# Altium integrated library LIB.IntLib: 8 symbols
Pins are listed as number, name and electrical type; pins without a type are passive.

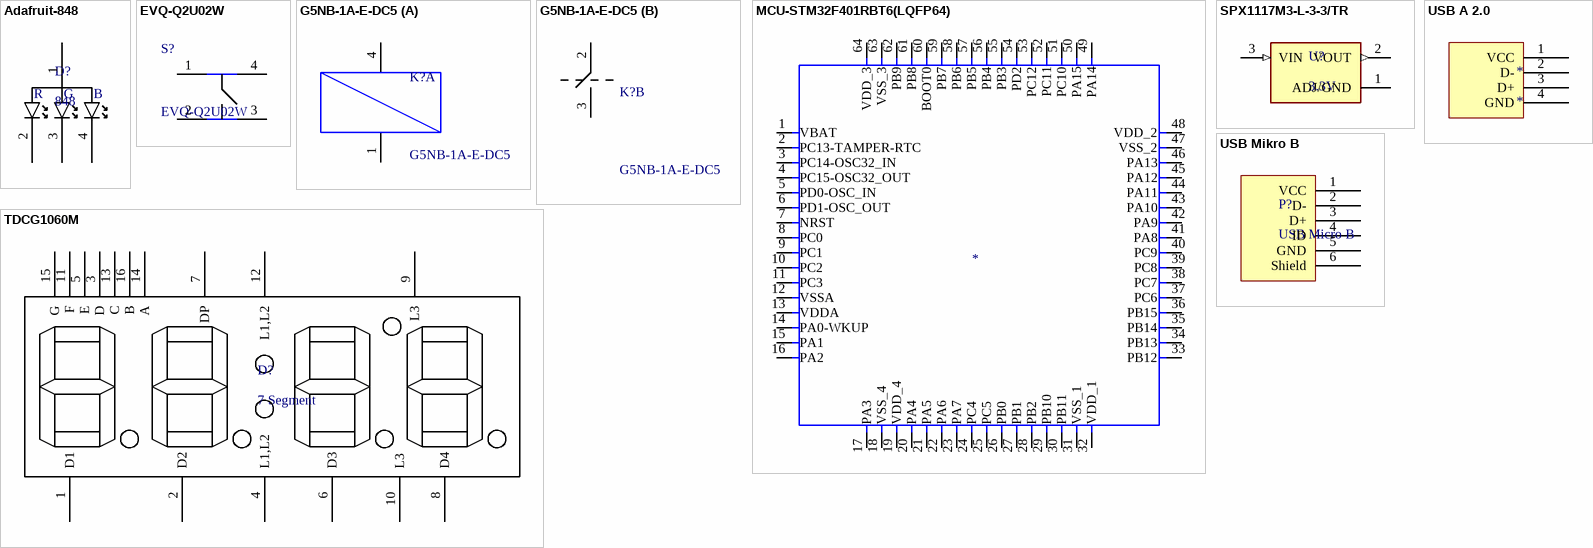
[diagram p0: symbols Adafruit-848 to USB Mikro B]

## Adafruit-848
designator D?, comment 848
footprint Adafruit-848
pins: 1 25, 2 26, 3 27, 4 28
text: R; G; B

## EVQ-Q2U02W
designator S?
White Button Tactile Switch, Single Pole Single Throw (SPST) 20 mA @ 15 V dc 0.7mm; Manufacturer_Name: Panasonic; Mouser Part Number: 667-EVQ-Q2U02W; Mouser Price/Stock: https://www.mouser.com/Search/Refine.aspx?Keyword=667-EVQ-Q2U02W; Manufacturer_Part_Number: EVQ-Q2U02W; Datasheet Link: https://componentsearchengine.com/Datasheets/1/EVQ-Q2U02W.pdf
footprint EVQQ2
pins: 1 NO_1, 2 COM_1, 3 COM_2, 4 NO_2

## G5NB-1A-E-DC5
designator K?
General Purpose Relays SPST-NO Flux-Tight 5VDC High-Capacity; Manufacturer_Name: Omron Electronics; Geometry.Height: 15mm; Manufacturer_Part_Number: G5NB-1A-E-DC5; Mouser Part Number: 653-G5NB-1A-E-DC5; Mouser Price/Stock: https://www.mouser.com/Search/Refine.aspx?Keyword=653-G5NB-1A-E-DC5; RS Part Number: *; RS Price/Stock: *; Datasheet Link: https://omronfs.omron.com/en_US/ecb/products/pdf/en-g5nb.pdf
footprint G5NB1A4DC5
part A pins: 1 COIL_1, 4 COIL_2
part B pins: 2 COM, 3 NO

## MCU-STM32F401RBT6(LQFP64)
designator ?
ARMÂ® CortexÂ®-M4 STM32F4 Microcontroller IC 32-Bit 84MHz 128KB _128K x 8_ FLASH 64-LQFP _10x10_; MF: STMicroelectronics; MP: STM32F401RBT6; Package: LQFP-64 STMicroelectronics; Price: None; Availability: Unavailable; SnapEDA_Link: https://www.snapeda.com/parts/STM32F401RBT6/STMicroelectronics/view-part/49021/?ref=snap; Value: *
footprint LQFP64-0.5-10X10MM
pins: 1 VBAT (io), 2 PC13-TAMPER-RTC (io), 3 PC14-OSC32_IN (io), 4 PC15-OSC32_OUT (io), 5 PD0-OSC_IN (io), 6 PD1-OSC_OUT (io), 7 NRST (io), 8 PC0 (io), 9 PC1 (io), 10 PC2 (io), 11 PC3 (io), 12 VSSA (io), 13 VDDA (io), 14 PA0-WKUP (io), 15 PA1 (io), 16 PA2 (io), 17 PA3 (io), 18 VSS_4 (io), 19 VDD_4 (io), 20 PA4 (io), 21 PA5 (io), 22 PA6 (io), 23 PA7 (io), 24 PC4 (io), 25 PC5 (io), 26 PB0 (io), 27 PB1 (io), 28 PB2 (io), 29 PB10 (io), 30 PB11 (io), 31 VSS_1 (io), 32 VDD_1 (io), 33 PB12 (io), 34 PB13 (io), 35 PB14 (io), 36 PB15 (io), 37 PC6 (io), 38 PC7 (io), 39 PC8 (io), 40 PC9 (io), 41 PA8 (io), 42 PA9 (io), 43 PA10 (io), 44 PA11 (io), 45 PA12 (io), 46 PA13 (io), 47 VSS_2 (io), 48 VDD_2 (io), 49 PA14 (io), 50 PA15 (io), 51 PC10 (io), 52 PC11 (io), 53 PC12 (io), 54 PD2 (io), 55 PB3 (io), 56 PB4 (io), 57 PB5 (io), 58 PB6 (io), 59 PB7 (io), 60 BOOT0 (io), 61 PB8 (io), 62 PB9 (io), 63 VSS_3 (io), 64 VDD_3 (io)

## SPX1117M3-L-3-3/TR
designator U?, comment 3.3V
Linear Voltage Regulator IC Positive Fixed 1 Output 800mA SOT-223; MF: MaxLinear, Inc.; MP: SPX1117M3-L-3-3/TR; Value: *; SnapEDA_Link: https://www.snapeda.com/parts/SPX1117M3-L-3-3/TR/MaxLinear%2C%20Inc./view-part/376705/?ref=snap; Package: SOT-223 Exar; Price: None; Availability: Unavailable
footprint SOT230P700X180-3N
pins: 1 ADJ/GND (power), 2 VOUT (out), 3 VIN (in)

## TDCG1060M
designator D?, comment 7 Segment
footprint TDCG1060M
pins: 1 D1, 2 D2, 3 D, 4 L1,L2, 5 E, 6 D3, 7 DP, 8 D4, 9 L3, 10 L3, 11 F, 12 L1,L2, 13 C, 14 A, 15 G, 16 B

## USB A 2.0
designator *
footprint USB A 2.0 Male
footprint OST_USB-A1HSW6
pins: 1 VCC, 2 D-, 3 D+, 4 GND

## USB Mikro B
designator P?, comment USB Micro B
footprint MCR-B-S-RA-SMT-EH4B-T/R
footprint USB3150-XX-XXX-X_revA (Micro USB Plug, Type B, Through-Hole, Vertical,  with Shell Stakes, with Locating Pegs)
pins: 1 VCC, 2 D-, 3 D+, 4 ID, 5 GND, 6 Shield